# EAGLE library part KSZ9021RL (library Micrel)
Gigabit Ethernet Transceiver with RGMII support
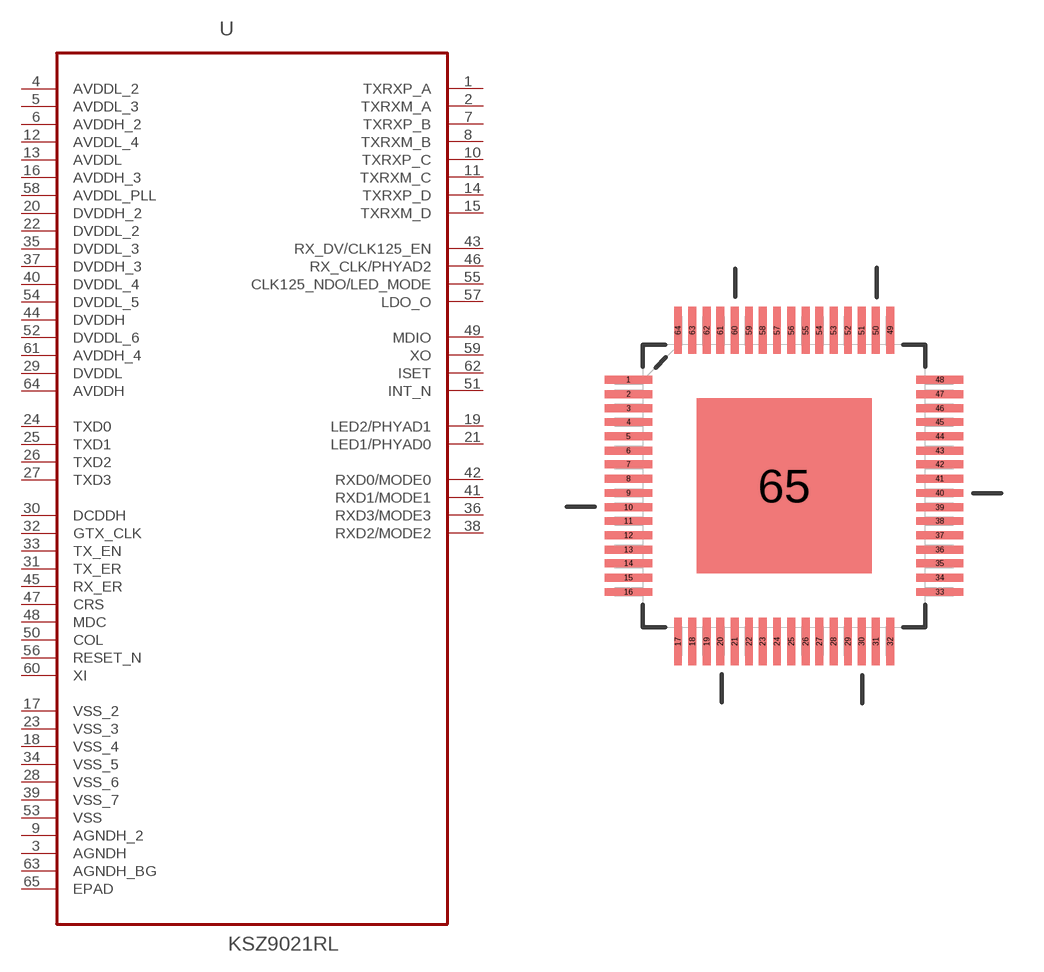
[diagram p4: symbol with the pads of QFP50P1200X1200X160-65N; footprint QFP50P1200X1200X160-65N]

Designator prefix U

## KSZ9021RL (MPN: KSZ9021RL; OC_FARNELL: 1864791; OC_NEWARK: 27T5803; PACKAGE: ELQFP-64; SUPPLIER: MICREL SEMICONDUCTOR)  [QFP50P1200X1200X160-65N]
1  TXRXP_A
2  TXRXM_A
3  AGNDH  pas
4  AVDDL_2  pwr
5  AVDDL_3  pwr
6  AVDDH_2  pwr
7  TXRXP_B
8  TXRXM_B
9  AGNDH_2  pas
10  TXRXP_C
11  TXRXM_C
12  AVDDL_4  pwr
13  AVDDL  pwr
14  TXRXP_D
15  TXRXM_D
16  AVDDH_3  pwr
17  VSS_2  pas
18  VSS_4  pas
19  LED2/PHYAD1
20  DVDDH_2  pwr
21  LED1/PHYAD0
22  DVDDL_2  pwr
23  VSS_3  pas
24  TXD0  in
25  TXD1  in
26  TXD2  in
27  TXD3  in
28  VSS_6  pas
29  DVDDL  pwr
30  DCDDH  in
31  TX_ER  in
32  GTX_CLK  in
33  TX_EN  in
34  VSS_5  pas
35  DVDDL_3  pwr
36  RXD3/MODE3
37  DVDDH_3  pwr
38  RXD2/MODE2
39  VSS_7  pas
40  DVDDL_4  pwr
41  RXD1/MODE1
42  RXD0/MODE0
43  RX_DV/CLK125_EN
44  DVDDH  pwr
45  RX_ER  nc
46  RX_CLK/PHYAD2
47  CRS  in
48  MDC  in
49  MDIO
50  COL  in
51  INT_N  out
52  DVDDL_6  pwr
53  VSS  pas
54  DVDDL_5  pwr
55  CLK125_NDO/LED_MODE
56  RESET_N  in
57  LDO_O  out
58  AVDDL_PLL  pas
59  XO  out
60  XI  in
61  AVDDH_4  pwr
62  ISET
63  AGNDH_BG  pas
64  AVDDH  pwr
65  EPAD  in

## Footprint QFP50P1200X1200X160-65N (pad centres in mm)
smd 1.676 x 0.279: 1 -5.512,3.759; 2 -5.512,3.251; 3 -5.512,2.743; 4 -5.512,2.261; 5 -5.512,1.753; 6 -5.512,1.245; 7 -5.512,0.762; 8 -5.512,0.254; 9 -5.512,-0.254; 10 -5.512,-0.762; 11 -5.512,-1.245; 12 -5.512,-1.753; 13 -5.512,-2.261; 14 -5.512,-2.743; 15 -5.512,-3.251; 16 -5.512,-3.759; 33 5.512,-3.759; 34 5.512,-3.251; 35 5.512,-2.743; 36 5.512,-2.261; 37 5.512,-1.753; 38 5.512,-1.245; 39 5.512,-0.762; 40 5.512,-0.254; 41 5.512,0.254; 42 5.512,0.762; 43 5.512,1.245; 44 5.512,1.753; 45 5.512,2.261; 46 5.512,2.743; 47 5.512,3.251; 48 5.512,3.759
smd 0.279 x 1.676: 17 -3.759,-5.512; 18 -3.251,-5.512; 19 -2.743,-5.512; 20 -2.261,-5.512; 21 -1.753,-5.512; 22 -1.245,-5.512; 23 -0.762,-5.512; 24 -0.254,-5.512; 25 0.254,-5.512; 26 0.762,-5.512; 27 1.245,-5.512; 28 1.753,-5.512; 29 2.261,-5.512; 30 2.743,-5.512; 31 3.251,-5.512; 32 3.759,-5.512; 49 3.759,5.512; 50 3.251,5.512; 51 2.743,5.512; 52 2.261,5.512; 53 1.753,5.512; 54 1.245,5.512; 55 0.762,5.512; 56 0.254,5.512; 57 -0.254,5.512; 58 -0.762,5.512; 59 -1.245,5.512; 60 -1.753,5.512; 61 -2.261,5.512; 62 -2.743,5.512; 63 -3.251,5.512; 64 -3.759,5.512
smd 6.198 x 6.198: 65 0,0